# Altium footprint library Intelligent_Agriculture1.PcbLib: 26 footprints (part 1 of 2)
Each footprint in its own frame and in the unit in brackets; x right, y up, seen from the top. Pads: shape width x height; smd on the part's side, far side on the other; paste and mask are expansions set on the pad; w line width, h text height; cw(c..) or ccw(c..) is an arc to the next point about the centre after c.
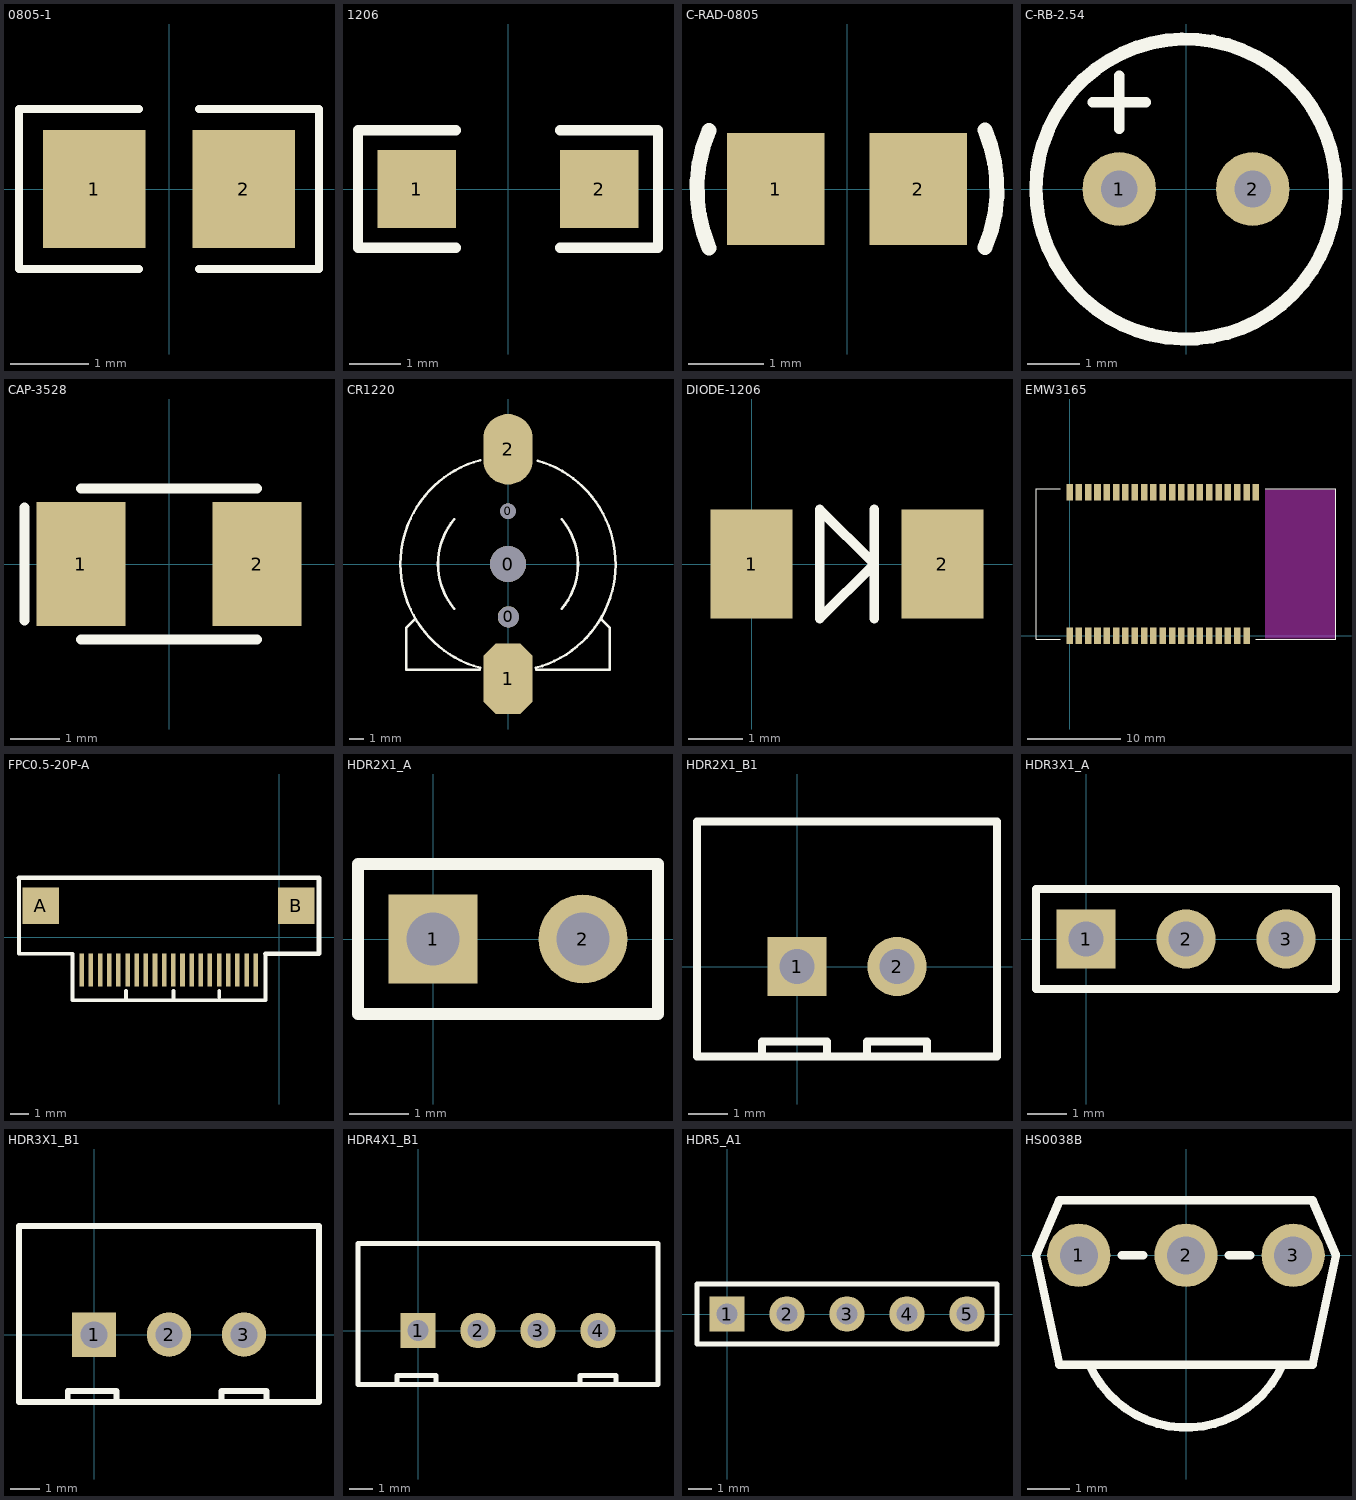
[diagram p0: the footprints below, top view; thin cyan lines are the x and y axes]

## 0805-1 [mm]
pads (2):
  rect 1.3x1.5 smd: 1(-0.95,0) 2(0.95,0)
Top Overlay:
  lines w0.1: -0.381,-1.016 -1.905,-1.016 -1.905,1.016 -0.381,1.016 ; 0.381,-1.016 1.905,-1.016 1.905,1.016 0.381,1.016
3D body: height 1, standoff 0, extent -1.143,-0.508 -1.016,0.508
3D body: height 1, standoff 0, extent 1.016,-0.508 1.143,0.508
3D body: height 1, standoff 0, extent -1.016,-0.508 1.016,0.508

## 1206 [mil]
pads (2):
  rect 60x60 smd: 1(-70,0) 2(70,0)
Top Overlay:
  lines w7.87: -40,-45 -115,-45 -115,45 -40,45 ; 40,-45 115,-45 115,45 40,45
3D body: height 39.37, standoff 0, extent -55,-35 55,35
3D body: height 39.37, standoff 0, extent 55,-35 75,35
3D body: height 39.37, standoff 0, extent -75,-35 -55,35

## C-RAD-0805 [mm]
pads (2):
  rect 1.3x1.5 smd: 1(-0.95,0) 2(0.95,0)
Top Overlay:
  lines w0.2: -1.842,0.779 ccw(c0,0) -1.838,-0.789 ; 1.838,0.789 cw(c0,0) 1.842,-0.779
3D body: height 0.9, standoff 0, extent 0.889,-0.635 1.27,0.635
3D body: height 0.9, standoff 0, extent -1.27,-0.635 -0.889,0.635
3D body: height 0.8, standoff 0, extent -1.016,-0.635 1.016,0.635

## C-RB-2.54 [mm]
pads (2):
  round 1.4 hole 0.7: 1(-1.27,0) 2(1.27,0)
Top Overlay:
  lines w0.2: -1.778,1.651 -0.762,1.651 ; -1.27,1.143 -1.27,2.159
  lines w0.254: 2.85,0.158 ccw(c0,0) 2.851,0.13

## CAP-3528 [mm]
pads (2):
  rect 1.8x2.5 smd: 1(-1.778,0) 2(1.778,0)
Top Overlay:
  lines w0.2: -2.921,-1.143 -2.921,1.143 ; -1.778,1.524 1.778,1.524 ; -1.775,-1.524 1.778,-1.524
3D body: height 1.1, standoff 0, extent 1.524,-0.953 1.778,0.953
3D body: height 1, standoff 0, extent -1.905,-1.397 1.905,1.397

## CR1220 [mm]
pads (5):
  round 2.54 hole 2.54: 0(0,0)
  round 1.1 hole 1.1: 0(0,3.75)
  round 1.5 hole 1.5: 0(0.025,-3.75)
  oct 3.5x5 smd: 1(0,-8.128)
  oval 3.5x5 smd: 2(0,8.128)
Top Overlay:
  lines w0.178: -6.6,-3.9 -7.2,-4.5 -7.2,-7.5 -2,-7.5 ; -3.815,-3.169 cw(c0,0) -3.812,3.172 ; -1.963,-7.363 cw(c0,0) -7.62,0 cw(c0,0) -1.963,7.363 ; 1.963,-7.363 ccw(c0,0) 2.093,7.327 ; 2,-7.5 7.2,-7.5 7.2,-4.5 6.625,-3.925 ; 3.81,-3.175 ccw(c0,0) 3.812,3.172

## DIODE-1206 [mm]
pads (2):
  rect 1.5x2 smd: 1(0,0) 2(3.5,0)
Top Overlay:
  lines w0.178: 2.25,-1 2.25,1 ; 1.25,-1 2.25,0 1.25,1 1.25,-1

## EMW3165 [mm] "EMW365 wifi 模块"
pads (41):
  rect 0.7x1.8 smd: 1(0,0) 2(1,0) 3(2,0) 4(3,0) 5(4,0) 6(5,0) 7(6,0) 8(7,0) 9(8,0) 10(9,0) 11(10,0) 12(11,0) 13(12,0) 14(13,0) 15(14,0) 16(15,0) 17(16,0) 18(17,0) 19(18,0) 20(19,0) 21(19,15.4) 22(18,15.4) 23(17,15.4) 24(16,15.4) 25(15,15.4) 26(14,15.4) 27(13,15.4) 28(12,15.4) 29(11,15.4) 30(10,15.4) 31(9,15.4) 32(8,15.4) 33(7,15.4) 34(6,15.4) 35(5,15.4) 36(4,15.4) 37(3,15.4) 38(2,15.4) 39(1,15.4) 40(0,15.4) 41(20,15.4)
Top Overlay:
  lines w0.127: -1,-0.4 -3.6,-0.4 -3.6,15.8 -1,15.8 ; 20,-0.4 28.6,-0.4 28.6,15.8 21,15.8
Keep-Out Layer:
  rectangle: 21,-0.3 28.5,15.7

## FPC0.5-20P-A [mm]
pads (22):
  rect 0.25x1.8 smd: 1(-1.296,-1.767) 2(-1.796,-1.767) 3(-2.296,-1.767) 4(-2.796,-1.767) 5(-3.296,-1.767) 6(-3.796,-1.767) 7(-4.296,-1.767) 8(-4.796,-1.767) 9(-5.296,-1.767) 10(-5.796,-1.767) 11(-6.296,-1.767) 12(-6.796,-1.767) 13(-7.296,-1.767) 14(-7.796,-1.767) 15(-8.296,-1.767) 16(-8.796,-1.767) 17(-9.296,-1.767) 18(-9.796,-1.767) 19(-10.296,-1.767) 20(-10.796,-1.767)
  rect 2x2 smd: A(-13.045,1.722) B(0.922,1.722)
Top Overlay:
  lines w0.2: -14.224,3.258 -14.224,-0.889 -11.303,-0.889 -11.303,-3.429 -0.762,-3.429 -0.762,-0.889 ; -8.382,-3.421 -8.382,-2.921 ; -5.788,-3.292 -5.788,-2.921 ; -3.288,-3.267 -3.288,-2.921
  lines w0.254: -14.224,3.258 2.159,3.258 2.159,-0.889 -0.762,-0.889

## HDR2X1_A [mm]
pads (2):
  rect 1.5x1.5 hole 0.9: 1(0,0)
  round 1.5 hole 0.9: 2(2.54,0)
Top Overlay:
  lines w0.2: -1.27,-1.27 -1.27,1.27 3.81,1.27 3.81,-1.27 -1.27,-1.27

## HDR2X1_B1 [mm]
pads (2):
  rect 1.5x1.5 hole 0.9: 1(0,0)
  round 1.5 hole 0.9: 2(2.54,0)
Top Overlay:
  lines w0.2: -0.889,-2.286 -0.889,-1.905 0.762,-1.905 0.762,-2.286 ; 1.778,-2.286 1.778,-1.905 3.302,-1.905 3.302,-2.286 ; -2.54,-2.286 -2.54,3.683 5.08,3.683 5.08,-2.286 -2.54,-2.286
3D body: height 1.5, standoff 0, extent -2.413,-2.159 5.08,3.556

## HDR3X1_A [mm]
pads (3):
  rect 1.5x1.5 hole 0.9: 1(0,0)
  round 1.5 hole 0.9: 2(2.54,0) 3(5.08,0)
Top Overlay:
  lines w0.2: -1.27,-1.27 -1.27,1.27 6.35,1.27 6.35,-1.27 -1.27,-1.27

## HDR3X1_B1 [mm]
pads (3):
  rect 1.5x1.5 hole 0.9: 1(0,0)
  round 1.5 hole 0.9: 2(2.54,0) 3(5.08,0)
Top Overlay:
  lines w0.2: -0.889,-2.286 -0.889,-1.905 0.762,-1.905 0.762,-2.286 ; 4.318,-2.286 4.318,-1.905 5.842,-1.905 5.842,-2.286 ; -2.54,-2.286 7.62,-2.286 7.62,3.683 -2.54,3.683 -2.54,-2.286
3D body: height 1.5, standoff 0, extent -2.54,-2.286 7.62,3.683

## HDR4X1_B1 [mm]
pads (4):
  rect 1.5x1.5 hole 0.9: 1(0,0)
  round 1.5 hole 0.9: 2(2.54,0) 3(5.08,0) 4(7.62,0)
Top Overlay:
  lines w0.2: -0.889,-2.286 -0.889,-1.905 0.762,-1.905 0.762,-2.286 ; 6.858,-2.286 6.858,-1.905 8.382,-1.905 8.382,-2.286 ; -2.54,-2.286 10.16,-2.286 10.16,3.683 -2.54,3.683 -2.54,-2.286
3D body: height 1.5, standoff 0, extent -2.413,-2.159 10.033,3.556

## HDR5_A1 [mm]
pads (5):
  rect 1.5x1.5 hole 0.9: 1(0,0)
  round 1.5 hole 0.9: 2(2.54,0) 3(5.08,0) 4(7.62,0) 5(10.16,0)
Top Overlay:
  lines w0.2: -1.27,-1.27 11.43,-1.27 11.43,1.27 -1.27,1.27 -1.27,-1.27

## HS0038B [mm]
pads (3):
  round 1.5 hole 0.9: 1(-2.54,0) 2(0,0) 3(2.54,0)
Top Overlay:
  lines w0.2: -2.285,-2.599 ccw(c0,-1.584) 2.285,-2.599 ; -1.524,0 -1.016,0 ; 1.016,0 1.524,0 ; -3.556,0 -3,1.3 3,1.3 3.556,0 3,-2.6 -3,-2.6 -3.556,0